# Altium schematic symbol library SAL-TC377TP-96F300S AA.SchLib: 1 symbol
Pins are listed as number, name and electrical type; pins without a type are passive.

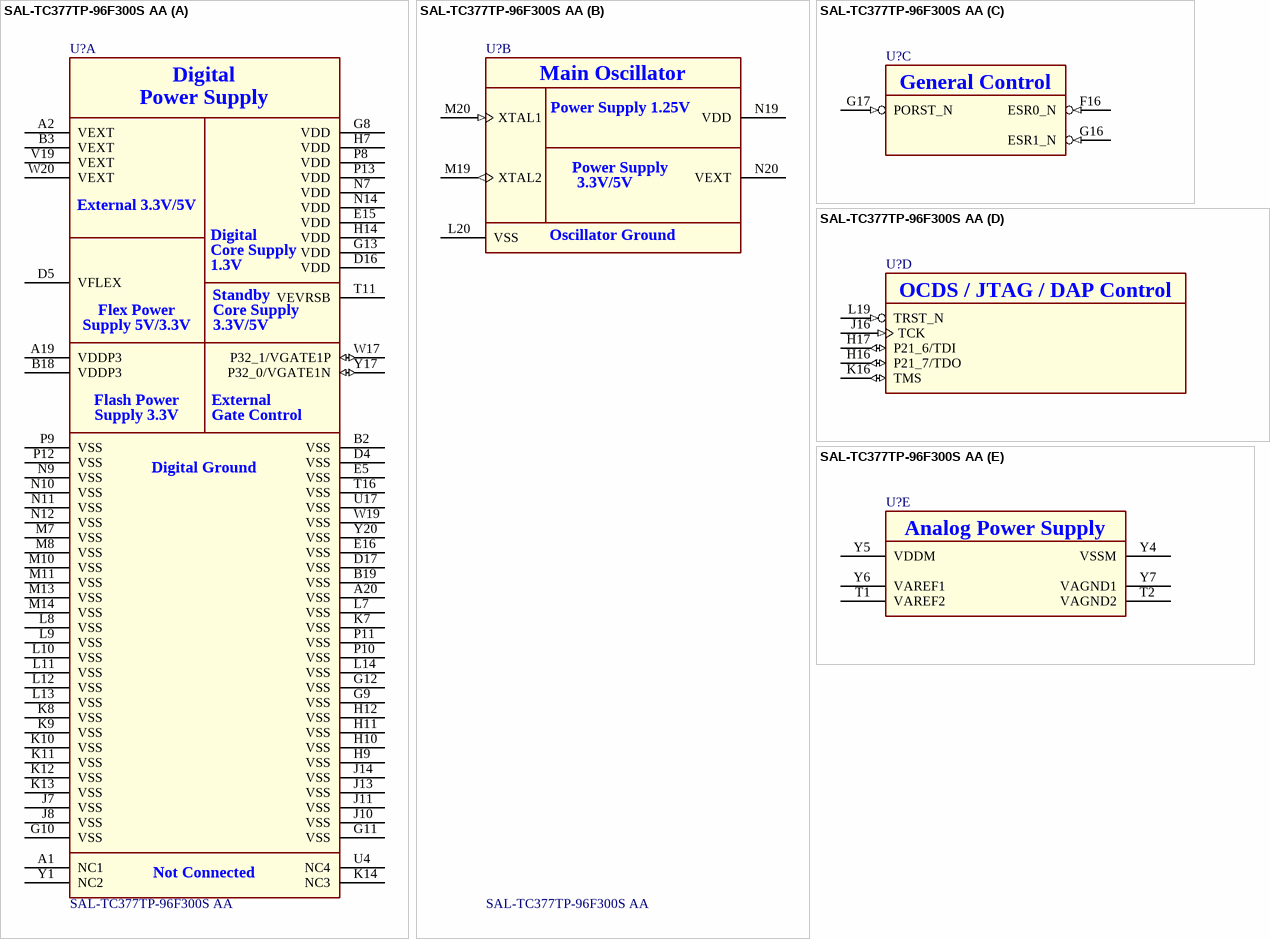
[diagram p0: symbol SAL-TC377TP-96F300S AA]

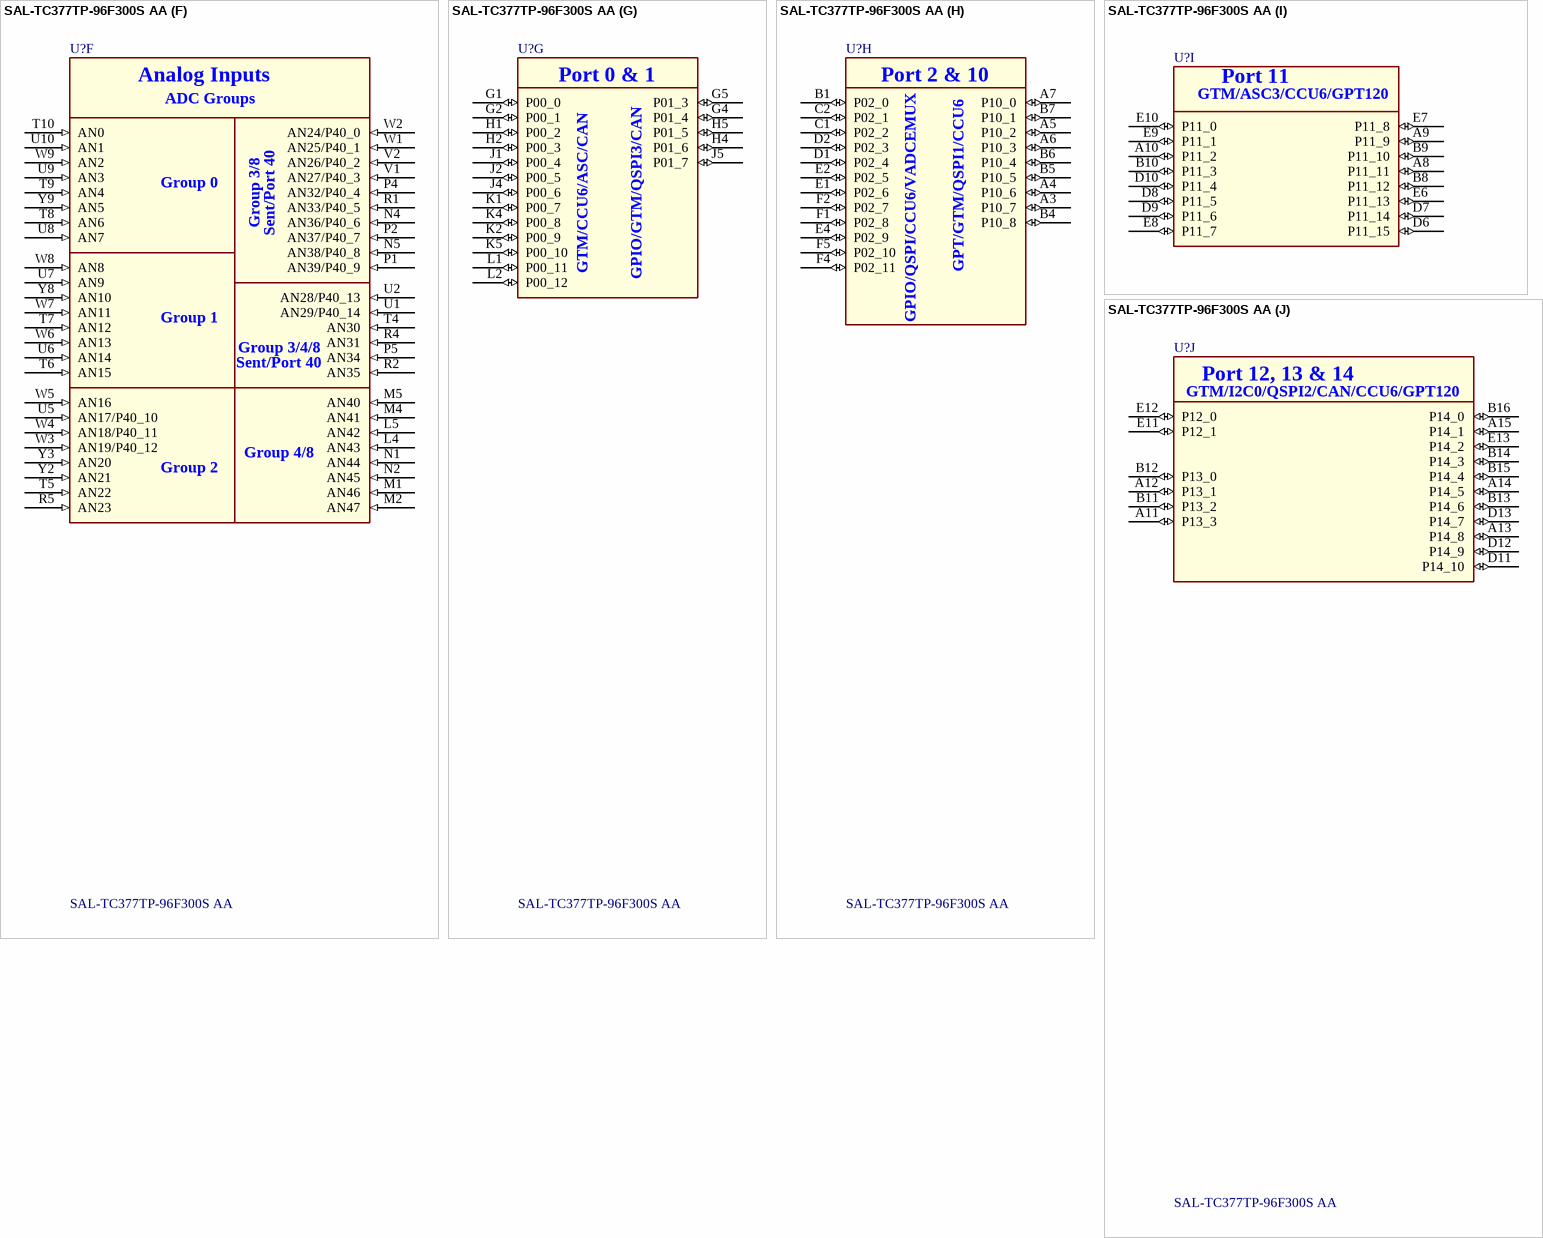
[diagram p1: symbol SAL-TC377TP-96F300S AA]

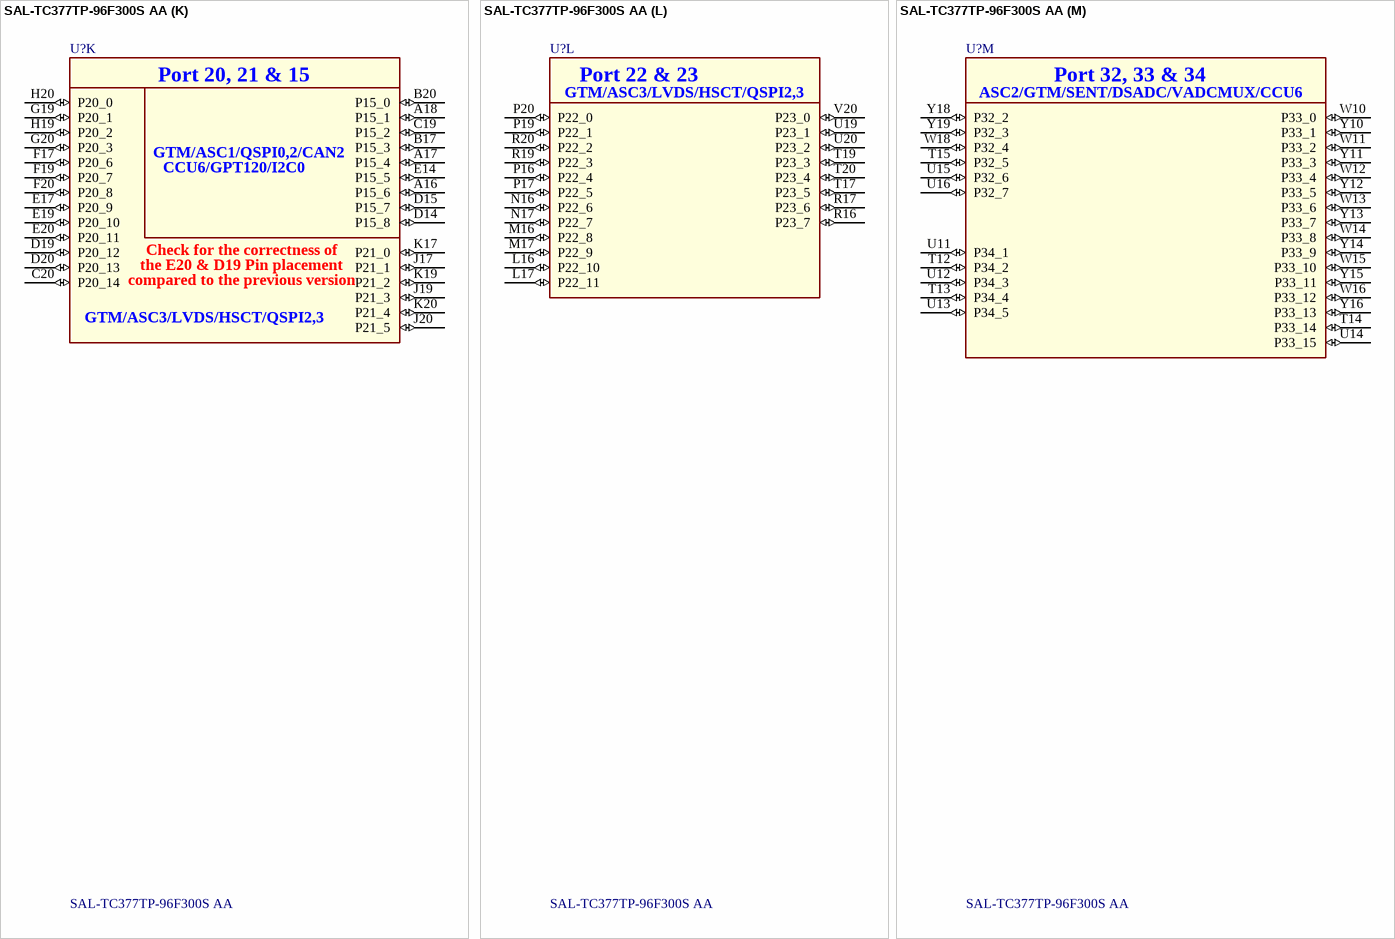
[diagram p2: symbol SAL-TC377TP-96F300S AA]

## SAL-TC377TP-96F300S AA
designator U?
32-Bit Single-Chip Microcontroller; Manufacturer: Infineon Technologies; Manufacturer Order Number: SAL-TC377TP-96F300S AA; PackageReference: PG-LFBGA-292-11
part A pins: A1 NC1, A2 VEXT (power), A19 VDDP3 (power), A20 VSS (power), B2 VSS (power), B3 VEXT (power), B18 VDDP3 (power), B19 VSS (power), D4 VSS (power), D5 VFLEX (power), D16 VDD (power), D17 VSS (power), E5 VSS (power), E15 VDD (power), E16 VSS (power), G8 VDD (power), G9 VSS (power), G10 VSS (power), G11 VSS (power), G12 VSS (power), G13 VDD (power), H7 VDD (power), H9 VSS (power), H10 VSS (power), H11 VSS (power), H12 VSS (power), H14 VDD (power), J7 VSS (power), J8 VSS (power), J10 VSS (power), J11 VSS (power), J13 VSS (power), J14 VSS (power), K7 VSS (power), K8 VSS (power), K9 VSS (power), K10 VSS (power), K11 VSS (power), K12 VSS (power), K13 VSS (power), K14 NC3, L7 VSS (power), L8 VSS (power), L9 VSS (power), L10 VSS (power), L11 VSS (power), L12 VSS (power), L13 VSS (power), L14 VSS (power), M7 VSS (power), M8 VSS (power), M10 VSS (power), M11 VSS (power), M13 VSS (power), M14 VSS (power), N7 VDD (power), N9 VSS (power), N10 VSS (power), N11 VSS (power), N12 VSS (power), N14 VDD (power), P8 VDD (power), P9 VSS (power), P10 VSS (power), P11 VSS (power), P12 VSS (power), P13 VDD (power), T11 VEVRSB (power), T16 VSS (power), U4 NC4, U17 VSS (power), V19 VEXT (power), W17 P32_1/VGATE1P (io), W19 VSS (power), W20 VEXT (power), Y1 NC2, Y17 P32_0/VGATE1N (io), Y20 VSS (power)
part B pins: L20 VSS (power), M19 XTAL2 (out), M20 XTAL1 (in), N19 VDD (power), N20 VEXT (power)
part C pins: F16 ESR0_N (in), G16 ESR1_N (in), G17 PORST_N (in)
part D pins: H16 P21_7/TDO (io), H17 P21_6/TDI (io), J16 TCK (in), K16 TMS (io), L19 TRST_N (in)
part E pins: T1 VAREF2 (power), T2 VAGND2 (power), Y4 VSSM (power), Y5 VDDM (power), Y6 VAREF1 (power), Y7 VAGND1 (power)
part F pins: L4 AN43 (in), L5 AN42 (in), M1 AN46 (in), M2 AN47 (in), M4 AN41 (in), M5 AN40 (in), N1 AN44 (in), N2 AN45 (in), N4 AN36/P40_6 (in), N5 AN38/P40_8 (in), P1 AN39/P40_9 (in), P2 AN37/P40_7 (in), P4 AN32/P40_4 (in), P5 AN34 (in), R1 AN33/P40_5 (in), R2 AN35 (in), R4 AN31 (in), R5 AN23 (in), T4 AN30 (in), T5 AN22 (in), T6 AN15 (in), T7 AN12 (in), T8 AN6 (in), T9 AN4 (in), T10 AN0 (in), U1 AN29/P40_14 (in), U2 AN28/P40_13 (in), U5 AN17/P40_10 (in), U6 AN14 (in), U7 AN9 (in), U8 AN7 (in), U9 AN3 (in), U10 AN1 (in), V1 AN27/P40_3 (in), V2 AN26/P40_2 (in), W1 AN25/P40_1 (in), W2 AN24/P40_0 (in), W3 AN19/P40_12 (in), W4 AN18/P40_11 (in), W5 AN16 (in), W6 AN13 (in), W7 AN11 (in), W8 AN8 (in), W9 AN2 (in), Y2 AN21 (in), Y3 AN20 (in), Y8 AN10 (in), Y9 AN5 (in)
part G pins: G1 P00_0 (io), G2 P00_1 (io), G4 P01_4 (io), G5 P01_3 (io), H1 P00_2 (io), H2 P00_3 (io), H4 P01_6 (io), H5 P01_5 (io), J1 P00_4 (io), J2 P00_5 (io), J4 P00_6 (io), J5 P01_7 (io), K1 P00_7 (io), K2 P00_9 (io), K4 P00_8 (io), K5 P00_10 (io), L1 P00_11 (io), L2 P00_12 (io)
part H pins: A3 P10_7 (io), A4 P10_6 (io), A5 P10_2 (io), A6 P10_3 (io), A7 P10_0 (io), B1 P02_0 (io), B4 P10_8 (io), B5 P10_5 (io), B6 P10_4 (io), B7 P10_1 (io), C1 P02_2 (io), C2 P02_1 (io), D1 P02_4 (io), D2 P02_3 (io), E1 P02_6 (io), E2 P02_5 (io), E4 P02_9 (io), F1 P02_8 (io), F2 P02_7 (io), F4 P02_11 (io), F5 P02_10 (io)
part I pins: A8 P11_11 (io), A9 P11_9 (io), A10 P11_2 (io), B8 P11_12 (io), B9 P11_10 (io), B10 P11_3 (io), D6 P11_15 (io), D7 P11_14 (io), D8 P11_5 (io), D9 P11_6 (io), D10 P11_4 (io), E6 P11_13 (io), E7 P11_8 (io), E8 P11_7 (io), E9 P11_1 (io), E10 P11_0 (io)
part J pins: A11 P13_3 (io), A12 P13_1 (io), A13 P14_8 (io), A14 P14_5 (io), A15 P14_1 (io), B11 P13_2 (io), B12 P13_0 (io), B13 P14_6 (io), B14 P14_3 (io), B15 P14_4 (io), B16 P14_0 (io), D11 P14_10 (io), D12 P14_9 (io), D13 P14_7 (io), E11 P12_1 (io), E12 P12_0 (io), E13 P14_2 (io)
part K pins: A16 P15_6 (io), A17 P15_4 (io), A18 P15_1 (io), B17 P15_3 (io), B20 P15_0 (io), C19 P15_2 (io), C20 P20_14 (io), D14 P15_8 (io), D15 P15_7 (io), D19 P20_12 (io), D20 P20_13 (io), E14 P15_5 (io), E17 P20_9 (io), E19 P20_10 (io), E20 P20_11 (io), F17 P20_6 (io), F19 P20_7 (io), F20 P20_8 (io), G19 P20_1 (io), G20 P20_3 (io), H19 P20_2 (io), H20 P20_0 (io), J17 P21_1 (io), J19 P21_3 (io), J20 P21_5 (io), K17 P21_0 (io), K19 P21_2 (io), K20 P21_4 (io)
part L pins: L16 P22_10 (io), L17 P22_11 (io), M16 P22_8 (io), M17 P22_9 (io), N16 P22_6 (io), N17 P22_7 (io), P16 P22_4 (io), P17 P22_5 (io), P19 P22_1 (io), P20 P22_0 (io), R16 P23_7 (io), R17 P23_6 (io), R19 P22_3 (io), R20 P22_2 (io), T17 P23_5 (io), T19 P23_3 (io), T20 P23_4 (io), U19 P23_1 (io), U20 P23_2 (io), V20 P23_0 (io)
part M pins: T12 P34_2 (io), T13 P34_4 (io), T14 P33_14 (io), T15 P32_5 (io), U11 P34_1 (io), U12 P34_3 (io), U13 P34_5 (io), U14 P33_15 (io), U15 P32_6 (io), U16 P32_7 (io), W10 P33_0 (io), W11 P33_2 (io), W12 P33_4 (io), W13 P33_6 (io), W14 P33_8 (io), W15 P33_10 (io), W16 P33_12 (io), W18 P32_4 (io), Y10 P33_1 (io), Y11 P33_3 (io), Y12 P33_5 (io), Y13 P33_7 (io), Y14 P33_9 (io), Y15 P33_11 (io), Y16 P33_13 (io), Y18 P32_2 (io), Y19 P32_3 (io)
part A text: Digital; Power Supply; External 3.3V/5V; Core Supply; 1.3V; Standby; Flex Power; Supply 5V/3.3V; 3.3V/5V; Flash Power; External; Supply 3.3V; Gate Control; Digital Ground; Not Connected
part B text: Main Oscillator; Power Supply 1.25V; Power Supply; 3.3V/5V; Oscillator Ground
part C text: General Control
part D text: OCDS / JTAG / DAP Control
part E text: Analog Power Supply
part F text: Analog Inputs; ADC Groups; Group 0; Group 3/8; Sent/Port 40; Group 1; Group 3/4/8; Group 4/8; Group 2
part G text: Port 0 & 1; GTM/CCU6/ASC/CAN; GPIO/GTM/QSPI3/CAN
part H text: Port 2 & 10; GPT/GTM/QSPI1/CCU6; GPIO/QSPI/CCU6/VADCEMUX
part I text: Port 11; GTM/ASC3/CCU6/GPT120
part J text: Port 12, 13 & 14; GTM/I2C0/QSPI2/CAN/CCU6/GPT120
part K text: Port 20, 21 & 15; GTM/ASC1/QSPI0,2/CAN2; CCU6/GPT120/I2C0; Check for the correctness of; the E20 & D19 Pin placement; compared to the previous version; GTM/ASC3/LVDS/HSCT/QSPI2,3
part L text: Port 22 & 23; GTM/ASC3/LVDS/HSCT/QSPI2,3
part M text: Port 32, 33 & 34; ASC2/GTM/SENT/DSADC/VADCMUX/CCU6